# Altium schematic symbol library BNO055.SchLib: 1 symbol
Pins are listed as number, name and electrical type; pins without a type are passive.

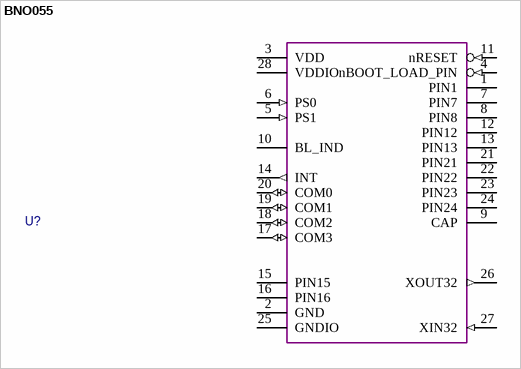
[diagram p0: symbol BNO055]

## BNO055
designator U?  (value not drawn)
pins: 1 PIN1 (power), 2 GND (power), 3 VDD (power), 4 nBOOT_LOAD_PIN (in), 5 PS1 (in), 6 PS0 (in), 7 PIN7 (power), 8 PIN8 (power), 9 CAP, 10 BL_IND (power), 11 nRESET (in), 12 PIN12, 13 PIN13, 14 INT (out), 15 PIN15 (power), 16 PIN16 (power), 17 COM3 (io), 18 COM2 (io), 19 COM1 (io), 20 COM0 (io), 21 PIN21, 22 PIN22, 23 PIN23, 24 PIN24, 25 GNDIO (power), 26 XOUT32 (out), 27 XIN32 (in), 28 VDDIO (power)